# Altium integrated library ATMEGA328-PU.IntLib: 1 symbol
Pins are listed as number, name and electrical type; pins without a type are passive.

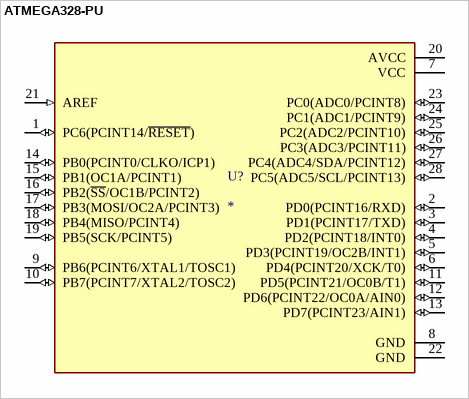
[diagram p0: symbol ATMEGA328-PU]

## ATMEGA328-PU
designator U?
AVR AVRÂ® ATmega Microcontroller IC 8-Bit 20MHz 32KB (16K x 16) FLASH 28-PDIP; MF: Microchip Technology; MP: ATMEGA328-PU; Value: *; Package: DIP-28 Microchip Technology; Availability: In Stock; Check_prices: https://www.snapeda.com/parts/ATMEGA328-PU/Microchip/view-part/?ref=eda; SnapEDA_Link: https://www.snapeda.com/parts/ATMEGA328-PU/Microchip/view-part/?ref=snap; Purchase-URL: https://pricing.snapeda.com/search/part/ATMEGA328-PU/?ref=eda; Price: None
footprint DIP787W46P254L3467H508Q28
pins: 1 PC6(PCINT14/~{RESET}) (io), 2 PD0(PCINT16/RXD) (io), 3 PD1(PCINT17/TXD) (io), 4 PD2(PCINT18/INT0) (io), 5 PD3(PCINT19/OC2B/INT1) (io), 6 PD4(PCINT20/XCK/T0) (io), 7 VCC (power), 8 GND (power), 9 PB6(PCINT6/XTAL1/TOSC1) (io), 10 PB7(PCINT7/XTAL2/TOSC2) (io), 11 PD5(PCINT21/OC0B/T1) (io), 12 PD6(PCINT22/OC0A/AIN0) (io), 13 PD7(PCINT23/AIN1) (io), 14 PB0(PCINT0/CLKO/ICP1) (io), 15 PB1(OC1A/PCINT1) (io), 16 PB2(~{SS}/OC1B/PCINT2) (io), 17 PB3(MOSI/OC2A/PCINT3) (io), 18 PB4(MISO/PCINT4) (io), 19 PB5(SCK/PCINT5) (io), 20 AVCC (power), 21 AREF (in), 22 GND (power), 23 PC0(ADC0/PCINT8) (io), 24 PC1(ADC1/PCINT9) (io), 25 PC2(ADC2/PCINT10) (io), 26 PC3(ADC3/PCINT11) (io), 27 PC4(ADC4/SDA/PCINT12) (io), 28 PC5(ADC5/SCL/PCINT13) (io)